# EAGLE library part UBLOX_CAM-M8Q (library Eric Navarrete Custom Parts Feb 2019)
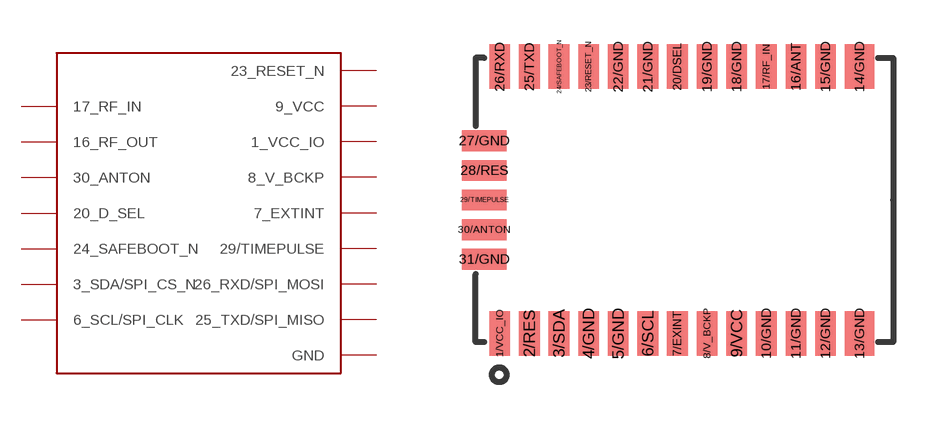
[diagram p26: symbol with the pads of UBLOX_CAM-M8Q; footprint UBLOX_CAM-M8Q]

Designator prefix U

## UBLOX_CAM-M8Q  [UBLOX_CAM-M8Q]
1/VCC_IO  1_VCC_IO  pwr
3/SDA  3_SDA/SPI_CS_N
4/GND  GND  pwr
5/GND  GND  pwr
6/SCL  6_SCL/SPI_CLK
7/EXINT  7_EXTINT
8/V_BCKP  8_V_BCKP
9/VCC  9_VCC  pwr
10/GND  GND  pwr
11/GND  GND  pwr
12/GND  GND  pwr
13/GND  GND  pwr
14/GND  GND  pwr
15/GND  GND  pwr
16/ANT  16_RF_OUT  pwr
17/RF_IN  17_RF_IN
18/GND  GND  pwr
19/GND  GND  pwr
20/DSEL  20_D_SEL
21/GND  GND  pwr
22/GND  GND  pwr
23/RESET_N  23_RESET_N  pwr
24/SAFEBOOT_N  24_SAFEBOOT_N
25/TXD  25_TXD/SPI_MISO
26/RXD  26_RXD/SPI_MOSI
27/GND  GND  pwr
29/TIMEPULSE  29/TIMEPULSE
30/ANTON  30_ANTON
31/GND  GND  pwr

## Footprint UBLOX_CAM-M8Q (pad centres in mm)
smd 0.7 x 1.5: 1/VCC_IO -5.58,-4.5; 2/RES -4.58,-4.5; 3/SDA -3.58,-4.5; 4/GND -2.58,-4.5; 5/GND -1.58,-4.5; 6/SCL -0.58,-4.5; 7/EXINT 0.42,-4.5; 8/V_BCKP 1.42,-4.5; 9/VCC 2.42,-4.5; 10/GND 3.42,-4.5; 11/GND 4.42,-4.5; 12/GND 5.42,-4.5; 15/GND 5.42,4.5; 16/ANT 4.42,4.5; 17/RF_IN 3.42,4.5; 18/GND 2.42,4.5; 19/GND 1.42,4.5; 20/DSEL 0.42,4.5; 21/GND -0.58,4.5; 22/GND -1.58,4.5; 23/RESET_N -2.58,4.5; 24/SAFEBOOT_N -3.58,4.5; 25/TXD -4.58,4.5; 26/RXD -5.58,4.5
smd 1 x 1.5: 13/GND 6.57,-4.5; 14/GND 6.57,4.5
smd 1.5 x 0.7: 27/GND -6.1,2; 28/RES -6.1,1; 29/TIMEPULSE -6.1,0; 30/ANTON -6.1,-1; 31/GND -6.1,-2